# Altium footprint library EXV227M016A9HAA.PcbLib: 1 footprints
Each footprint in its own frame and in the unit in brackets; x right, y up, seen from the top. Pads: shape width x height; smd on the part's side, far side on the other; paste and mask are expansions set on the pad; w line width, h text height; cw(c..) or ccw(c..) is an arc to the next point about the centre after c.
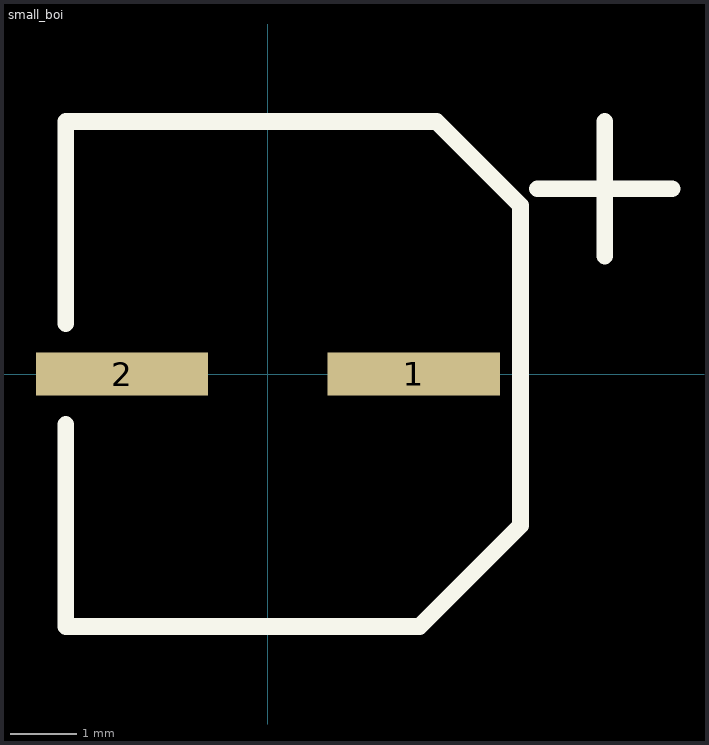
[diagram p0: the footprint, top view; thin cyan lines are the x and y axes]

## small_boi [mm]
pads (2):
  rect 2.6x0.65 smd: 1(2.2,0) 2(-2.2,0)
Top Overlay:
  lines w0.254: -3.048,-0.762 -3.048,-3.81 2.286,-3.81 3.81,-2.286 3.81,2.54 2.54,3.81 -3.048,3.81 -3.048,0.762 ; 4.064,2.794 6.096,2.794 ; 5.08,1.778 5.08,3.81